# Altium footprint library Esp32 CAM PCB.PcbLib: 29 footprints (part 1 of 2)
Each footprint in its own frame and in the unit in brackets; x right, y up, seen from the top. Pads: shape width x height; smd on the part's side, far side on the other; paste and mask are expansions set on the pad; w line width, h text height; cw(c..) or ccw(c..) is an arc to the next point about the centre after c.
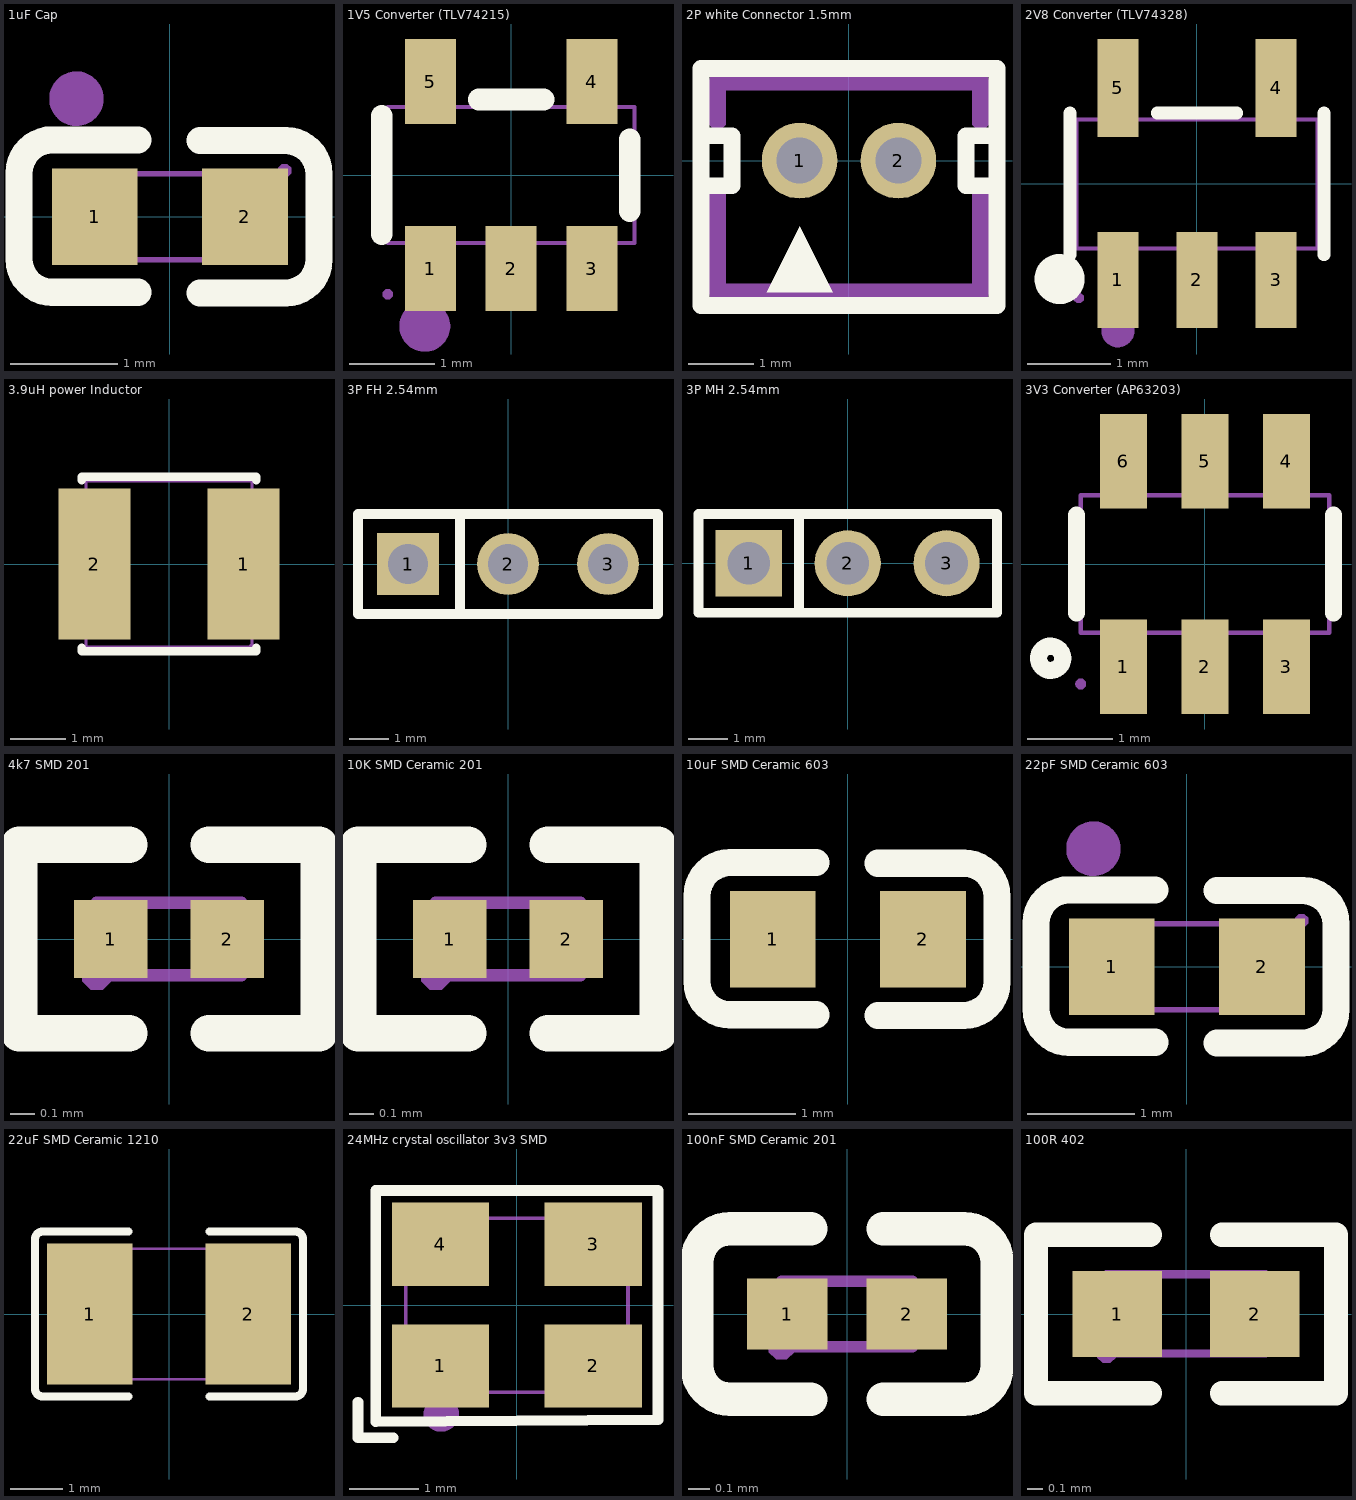
[diagram p0: the footprints below, top view; thin cyan lines are the x and y axes]

## 1uF Cap [mm]
pads (2):
  rect 0.8x0.9 smd paste+0 mask+0.051: 1(-0.7,0) 2(0.7,0)
Top Overlay:
  lines w0.254: -0.296,-0.704 -1.096,-0.704 cw(c-1.096,-0.394) -1.406,-0.394 -1.405,0.406 cw(c-1.096,0.406) -1.096,0.715 -0.296,0.715 ; 0.28,-0.71 1.08,-0.71 ccw(c1.08,-0.4) 1.39,-0.4 1.39,0.4 ccw(c1.08,0.4) 1.08,0.71 0.28,0.71
Mechanical 6:
  circle w0.254: c-0.87,1.1 r0.127
Mechanical 15:
  region: 1.13,0.43 1.13,0.455 1.095,0.49 1.045,0.49 1.01,0.455 1.01,0.43 1.01,0.405 1.045,0.37 1.095,0.37 1.13,0.405
  region: -0.8,-0.4 -0.8,0.4 -0.5,0.4 -0.5,-0.4
  region: 0.8,-0.4 0.8,0.4 0.5,0.4 0.5,-0.4
  lines w0.051: -0.8,-0.4 -0.8,0.4 0.8,0.4 0.8,-0.4 -0.8,-0.4
3D body "603 cap.step": height 0.47, standoff 0.01, extent -0.851,-0.4 0.749,0.4

## 1V5 Converter (TLV74215) [mm]
pads (5):
  rect 0.6x1 smd paste+0 mask+0.05: 1(-0.95,-1.1) 2(0,-1.1) 3(0.95,-1.1) 4(0.95,1.1) 5(-0.95,1.1)
Top Overlay:
  lines w0.254: -1.524,-0.699 -1.524,0.699 ; -0.381,0.889 0.381,0.889 ; 1.397,-0.422 1.397,0.422
Mechanical 6:
  circle w0.3: c-1.016,-1.778 r0.15
Mechanical 15:
  region: -1.15,0.95 -1.15,1.4 -0.75,1.4 -0.75,0.95
  region: -1.15,0.79 -1.15,0.96 -0.75,0.96 -0.75,0.79
  region: 0.75,0.95 0.75,1.4 1.15,1.4 1.15,0.95
  region: 0.75,0.79 0.75,0.96 1.15,0.96 1.15,0.79
  region: -1.15,-1.4 -1.15,-0.95 -0.75,-0.95 -0.75,-1.4
  region: -1.15,-0.96 -1.15,-0.79 -0.75,-0.79 -0.75,-0.96
  region: 0.75,-1.4 0.75,-0.95 1.15,-0.95 1.15,-1.4
  region: 0.75,-0.96 0.75,-0.79 1.15,-0.79 1.15,-0.96
  region: -0.2,-1.4 -0.2,-0.95 0.2,-0.95 0.2,-1.4
  region: -0.2,-0.96 -0.2,-0.79 0.2,-0.79 0.2,-0.96
  region: -1.39,-1.4 -1.391,-1.376 -1.426,-1.341 -1.475,-1.341 -1.51,-1.376 -1.51,-1.4 -1.51,-1.425 -1.475,-1.459 -1.426,-1.459 -1.391,-1.425
  lines w0.051: -1.45,-0.8 1.45,-0.8 1.45,0.8 -1.45,0.8 -1.45,-0.8
3D body "TLV74315PDBVR.stp": height 1.2, standoff 0, extent -1.45,-1.349 1.45,1.451

## 2P white Connector 1.5mm [mm]
pads (2):
  round 1.15 hole 0.7 paste-2539.97 mask+0.051: 1(-0.75,0) 2(0.75,0)
Top Overlay:
  region: -1.25,-2 -0.25,-2 -0.75,-1
  lines w0.254: -2.25,-0.381 -1.778,-0.381 -1.778,0.381 -2.25,0.381 ; 2.25,-0.381 1.778,-0.381 1.778,0.381 2.25,0.381 ; -2.25,-2.2 -2.25,1.4 2.25,1.4 2.25,-2.2 -2.25,-2.2
Mechanical 6:
  region: -2.127,0.6 -2.127,1.2 -2.127,1.225 -2.108,1.272 -2.072,1.308 -2.025,1.327 -2,1.327 2,1.327 2.025,1.327 2.072,1.308 2.108,1.272 2.127,1.225 2.127,1.2 2.127,0.6 2.127,0.547 2.053,0.473 1.947,0.473 1.873,0.547 1.873,0.6 1.873,1.073 -1.873,1.073 -1.873,0.6 -1.873,0.547 -1.947,0.473 -2.053,0.473 -2.127,0.547
  region: -1.873,-0.5 -1.873,-1.873 1.873,-1.873 1.873,-0.5 1.873,-0.447 1.947,-0.373 2.053,-0.373 2.127,-0.447 2.127,-0.5 2.127,-2 2.127,-2.025 2.108,-2.072 2.072,-2.108 2.025,-2.127 2,-2.127 -2,-2.127 -2.025,-2.127 -2.072,-2.108 -2.108,-2.072 -2.127,-2.025 -2.127,-2 -2.127,-0.5 -2.127,-0.447 -2.053,-0.373 -1.947,-0.373 -1.873,-0.447
Mechanical 15:
  region: 1,0 1,0.049 0.961,0.141 0.891,0.21 0.799,0.248 0.7,0.248 0.609,0.21 0.539,0.141 0.5,0.049 0.5,0 0.5,-0.05 0.539,-0.141 0.609,-0.21 0.7,-0.248 0.799,-0.248 0.891,-0.21 0.961,-0.141 1,-0.049
  region: -0.5,0 -0.5,0.049 -0.539,0.141 -0.609,0.21 -0.7,0.248 -0.799,0.248 -0.891,0.21 -0.961,0.141 -1,0.049 -1,0 -1,-0.05 -0.961,-0.141 -0.891,-0.21 -0.799,-0.248 -0.7,-0.248 -0.609,-0.21 -0.539,-0.141 -0.5,-0.049
  region: -2.19,-2.2 -2.19,-2.175 -2.225,-2.14 -2.275,-2.14 -2.31,-2.175 -2.31,-2.2 -2.31,-2.225 -2.275,-2.26 -2.225,-2.26 -2.19,-2.225
  lines w0.051: -2.25,-2.2 2.25,-2.2 2.25,1.4 -2.25,1.4 -2.25,-2.2

## 2V8 Converter (TLV74328) [mm]
pads (5):
  rect 0.49x1.157 smd paste+0 mask+0.051: 1(-0.95,-1.154) 2(0,-1.154) 3(0.95,-1.154)
  rect 0.49x1.175 smd paste+0 mask+0.051: 4(0.95,1.154) 5(-0.95,1.154)
Top Overlay:
  circle w0.3: c-1.651,-1.143 r0.15
  lines w0.152: -1.526,-0.851 -1.526,0.851 ; -0.476,0.851 0.476,0.851 ; 1.526,-0.851 1.526,0.851
Mechanical 6:
  circle w0.2: c-0.95,-1.763 r0.1
Mechanical 15:
  region: -1.36,-1.37 -1.361,-1.345 -1.396,-1.311 -1.445,-1.311 -1.48,-1.346 -1.48,-1.37 -1.48,-1.395 -1.445,-1.429 -1.396,-1.429 -1.361,-1.394
  region: -1.125,0.74 -1.125,1.01 -0.775,1.01 -0.775,0.74
  region: -1.125,1 -1.125,1.4 -0.775,1.4 -0.775,1
  region: 0.775,0.74 0.775,1.01 1.125,1.01 1.125,0.74
  region: 0.775,1 0.775,1.4 1.125,1.4 1.125,1
  region: 0.775,-1.01 0.775,-0.74 1.125,-0.74 1.125,-1.01
  region: 0.775,-1.4 0.775,-1 1.125,-1 1.125,-1.4
  region: -0.175,-1.01 -0.175,-0.74 0.175,-0.74 0.175,-1.01
  region: -0.175,-1.4 -0.175,-1 0.175,-1 0.175,-1.4
  region: -1.125,-1.01 -1.125,-0.74 -0.775,-0.74 -0.775,-1.01
  region: -1.125,-1.4 -1.125,-1 -0.775,-1 -0.775,-1.4
  lines w0.051: -1.45,-0.775 1.45,-0.775 1.45,0.775 -1.45,0.775 -1.45,-0.775
3D body "TLV74315PDBVR.stp": height 1.2, standoff 0, extent -1.45,-1.349 1.45,1.451

## 3.9uH power Inductor [mm]
pads (2):
  rect 1.3x2.72 smd paste+0 mask+0.051: 1(1.35,0) 2(-1.35,0)
Top Overlay:
  lines w0.152: -1.576,-1.512 -1.576,-1.576 1.576,-1.576 1.576,-1.512 ; -1.576,1.512 -1.576,1.576 1.576,1.576 1.576,1.512
Mechanical 15:
  region: 1.56,-1.5 1.56,-1.476 1.525,-1.441 1.475,-1.441 1.44,-1.475 1.44,-1.5 1.44,-1.525 1.475,-1.559 1.524,-1.559 1.559,-1.525
  region: 0.75,1.25 1.5,1.25 1.5,-1.25 0.75,-1.25
  region: -0.75,-1.25 -1.5,-1.25 -1.5,1.25 -0.75,1.25
  lines w0.051: -1.5,-1.5 -1.5,1.5 1.5,1.5 1.5,-1.5 -1.5,-1.5
3D body "SRN3015-180M.stp": height 1.5, standoff 0, extent -1.5,-1.5 1.5,1.5

## 3P FH 2.54mm [mil]
pads (3):
  rect 62x62 hole 40.16 paste-99999 mask+2: 1(-100,0)
  round 62 hole 40.16 paste-99999 mask+2: 2(0,0) 3(100,0)
Top Overlay:
  lines w10: -48.09,-50 -48.09,50 ; -150,-50 150,-50 150,50 -150,50 -150,-50
3D body "3P FH.STEP": height 350, standoff -344.49, extent -149,-49 151,51

## 3P MH 2.54mm [mm]
pads (3):
  rect 1.7x1.7 hole 1.1 paste-2539.97 mask+0.051: 1(-2.54,0)
  round 1.7 hole 1.1 paste-2539.97 mask+0.051: 2(0,0) 3(2.54,0)
Top Overlay:
  lines w0.254: -1.246,-1.27 -1.246,1.27 ; -3.835,-1.27 3.835,-1.27 3.835,1.27 -3.835,1.27 -3.835,-1.27
Mechanical 15:
  region: -3.75,-1.25 -3.751,-1.226 -3.786,-1.192 -3.834,-1.192 -3.869,-1.226 -3.87,-1.25 -3.869,-1.274 -3.834,-1.308 -3.786,-1.308 -3.751,-1.274
  region: 2.22,0.32 2.86,0.32 2.86,-0.32 2.22,-0.32
  region: -0.32,0.32 0.32,0.32 0.32,-0.32 -0.32,-0.32
  region: -2.86,0.32 -2.22,0.32 -2.22,-0.32 -2.86,-0.32
  lines w0.051: -3.81,-1.25 -3.81,1.25 3.81,1.25 3.81,-1.25 -3.81,-1.25
3D body "1x3 Male Pin Header.STEP": height 3, standoff -10.54, extent -3.838,-1.281 3.787,1.219

## 3V3 Converter (AP63203) [mm]
pads (6):
  rect 0.55x1.1 smd paste+0 mask+0.05: 1(-0.95,-1.2) 2(0,-1.2) 3(0.95,-1.2) 4(0.95,1.2) 5(0,1.2) 6(-0.95,1.2)
Top Overlay:
  circle w0.2: c-1.8,-1.1 r0.141
  lines w0.2: -1.5,-0.572 -1.5,0.572 ; 1.5,-0.572 1.5,0.572
Mechanical 6:
  circle w0.2: c-1,-1.4 r0.1
Mechanical 15:
  region: -1.39,-1.4 -1.391,-1.376 -1.426,-1.341 -1.475,-1.341 -1.51,-1.376 -1.51,-1.4 -1.51,-1.425 -1.475,-1.459 -1.426,-1.459 -1.391,-1.425
  region: -1.17,-1.01 -1.17,-0.79 -0.73,-0.79 -0.73,-1.01
  region: -1.17,-1.4 -1.17,-1 -0.73,-1 -0.73,-1.4
  region: -0.22,-1.01 -0.22,-0.79 0.22,-0.79 0.22,-1.01
  region: -0.22,-1.4 -0.22,-1 0.22,-1 0.22,-1.4
  region: 0.73,-1.01 0.73,-0.79 1.17,-0.79 1.17,-1.01
  region: 0.73,-1.4 0.73,-1 1.17,-1 1.17,-1.4
  region: 0.73,0.79 0.73,1.01 1.17,1.01 1.17,0.79
  region: 0.73,1 0.73,1.4 1.17,1.4 1.17,1
  region: -0.22,0.79 -0.22,1.01 0.22,1.01 0.22,0.79
  region: -0.22,1 -0.22,1.4 0.22,1.4 0.22,1
  region: -1.17,0.79 -1.17,1.01 -0.73,1.01 -0.73,0.79
  region: -1.17,1 -1.17,1.4 -0.73,1.4 -0.73,1
  lines w0.051: -1.45,-0.8 -1.45,0.8 1.45,0.8 1.45,-0.8 -1.45,-0.8
3D body "AP63203WU-7.step": height 1, standoff 0, extent -1.45,-1.45 1.45,1.45

## 4k7 SMD 201 [mm]
pads (2):
  rect 0.303x0.324 smd paste-100 mask+0.051: 1(-0.242,0) 2(0.242,0)
Top Overlay:
  lines w0.152: -0.166,-0.391 -0.622,-0.391 -0.622,0.391 -0.166,0.391 ; 0.166,-0.391 0.622,-0.391 0.622,0.391 0.166,0.391
Top Paste:
  region: -0.081,-0.138 -0.081,0.138 -0.105,0.162 -0.369,0.162 -0.393,0.138 -0.393,-0.138 -0.369,-0.162 -0.105,-0.162
  region: 0.081,-0.138 0.081,0.138 0.105,0.162 0.369,0.162 0.393,0.138 0.393,-0.138 0.369,-0.162 0.105,-0.162
Mechanical 15:
  region: 0.3,-0.15 0.3,0.15 0.15,0.15 0.15,-0.15
  region: -0.3,-0.15 -0.3,0.15 -0.15,0.15 -0.15,-0.15
  region: -0.24,-0.15 -0.24,-0.125 -0.275,-0.09 -0.325,-0.09 -0.36,-0.125 -0.36,-0.15 -0.36,-0.175 -0.325,-0.21 -0.275,-0.21 -0.24,-0.175
  lines w0.051: -0.3,-0.15 0.3,-0.15 0.3,0.15 -0.3,0.15 -0.3,-0.15
3D body "4k7 SMD res.step": height 0.26, standoff 0, extent -0.3,-0.15 0.3,0.15

## 10K SMD Ceramic 201 [mm]
pads (2):
  rect 0.303x0.324 smd paste-100 mask+0.051: 1(-0.242,0) 2(0.242,0)
Top Overlay:
  lines w0.152: -0.166,-0.391 -0.622,-0.391 -0.622,0.391 -0.166,0.391 ; 0.166,-0.391 0.622,-0.391 0.622,0.391 0.166,0.391
Top Paste:
  region: -0.081,-0.138 -0.081,0.138 -0.105,0.162 -0.369,0.162 -0.393,0.138 -0.393,-0.138 -0.369,-0.162 -0.105,-0.162
  region: 0.081,-0.138 0.081,0.138 0.105,0.162 0.369,0.162 0.393,0.138 0.393,-0.138 0.369,-0.162 0.105,-0.162
Mechanical 15:
  region: 0.3,-0.15 0.3,0.15 0.15,0.15 0.15,-0.15
  region: -0.3,-0.15 -0.3,0.15 -0.15,0.15 -0.15,-0.15
  region: -0.24,-0.15 -0.24,-0.125 -0.275,-0.09 -0.325,-0.09 -0.36,-0.125 -0.36,-0.15 -0.36,-0.175 -0.325,-0.21 -0.275,-0.21 -0.24,-0.175
  lines w0.051: -0.3,-0.15 0.3,-0.15 0.3,0.15 -0.3,0.15 -0.3,-0.15
3D body "10K SMD res.step": height 0.26, standoff 0, extent -0.3,-0.15 0.3,0.15

## 10uF SMD Ceramic 603 [mm]
pads (2):
  rect 0.8x0.9 smd paste+0 mask+0.051: 1(-0.7,0) 2(0.7,0)
Top Overlay:
  lines w0.254: -0.296,-0.704 -1.096,-0.704 cw(c-1.096,-0.394) -1.406,-0.394 -1.405,0.406 cw(c-1.096,0.406) -1.096,0.715 -0.296,0.715 ; 0.28,-0.71 1.08,-0.71 ccw(c1.08,-0.4) 1.39,-0.4 1.39,0.4 ccw(c1.08,0.4) 1.08,0.71 0.28,0.71
3D body "22pF cap SMD .step": height 0.97, standoff 0.02, extent -0.9,-0.432 0.85,0.438

## 22pF SMD Ceramic 603 [mm]
pads (2):
  rect 0.8x0.9 smd paste+0 mask+0.051: 1(-0.7,0) 2(0.7,0)
Top Overlay:
  lines w0.254: -0.296,-0.704 -1.096,-0.704 cw(c-1.096,-0.394) -1.406,-0.394 -1.405,0.406 cw(c-1.096,0.406) -1.096,0.715 -0.296,0.715 ; 0.28,-0.71 1.08,-0.71 ccw(c1.08,-0.4) 1.39,-0.4 1.39,0.4 ccw(c1.08,0.4) 1.08,0.71 0.28,0.71
Mechanical 6:
  circle w0.254: c-0.87,1.1 r0.127
Mechanical 15:
  region: 0.8,-0.4 0.8,0.4 0.5,0.4 0.5,-0.4
  region: -0.8,-0.4 -0.8,0.4 -0.5,0.4 -0.5,-0.4
  region: 1.13,0.43 1.13,0.455 1.095,0.49 1.045,0.49 1.01,0.455 1.01,0.43 1.01,0.405 1.045,0.37 1.095,0.37 1.13,0.405
  lines w0.051: -0.8,-0.4 0.8,-0.4 0.8,0.4 -0.8,0.4 -0.8,-0.4
3D body "22pF cap SMD .step": height 0.97, standoff 0.02, extent -0.824,-0.413 0.926,0.457

## 22uF SMD Ceramic 1210 [mm]
pads (2):
  rect 1.635x2.7 smd paste-100 mask+0.051: 1(-1.517,0) 2(1.517,0)
Top Overlay:
  lines w0.152: -0.776,-1.579 -2.411,-1.579 cw(c-2.411,-1.426) -2.564,-1.426 -2.564,1.426 cw(c-2.411,1.426) -2.411,1.579 -0.776,1.579 ; 0.776,-1.579 2.411,-1.579 ccw(c2.411,-1.426) 2.564,-1.426 2.564,1.426 ccw(c2.411,1.426) 2.411,1.579 0.776,1.579
Top Paste:
  region: -0.7,-1.25 -0.7,-0.559 -0.8,-0.459 -1.156,-0.459 -1.256,-0.359 -1.256,0.359 -1.156,0.459 -0.8,0.459 -0.7,0.559 -0.7,1.25 -0.8,1.35 -2.235,1.35 -2.335,1.25 -2.335,-1.25 -2.235,-1.35 -0.8,-1.35
  region: 0.7,-1.25 0.7,-0.559 0.8,-0.459 1.156,-0.459 1.256,-0.359 1.256,0.359 1.156,0.459 0.8,0.459 0.7,0.559 0.7,1.25 0.8,1.35 2.235,1.35 2.335,1.25 2.335,-1.25 2.235,-1.35 0.8,-1.35
Mechanical 15:
  region: 1.6,-1.25 1.6,1.25 1,1.25 1,-1.25
  region: -1.6,-1.25 -1.6,1.25 -1,1.25 -1,-1.25
  region: -1.54,-1.25 -1.541,-1.226 -1.576,-1.192 -1.624,-1.192 -1.659,-1.226 -1.66,-1.25 -1.659,-1.274 -1.624,-1.308 -1.576,-1.308 -1.541,-1.274
  lines w0.051: -1.6,-1.25 1.6,-1.25 1.6,1.25 -1.6,1.25 -1.6,-1.25
3D body "22uF SMD Cap.step": height 2.8, standoff 0, extent -1.575,-1.25 1.625,1.25

## 24MHz crystal oscillator 3v3 SMD [mm]
pads (4):
  rect 1.4x1.2 smd: 1(-1.1,-0.875) 2(1.1,-0.875) 3(1.1,0.875) 4(-1.1,0.875)
Top Overlay:
  lines w0.152: -2.286,-1.397 -2.286,-1.905 -1.778,-1.905 ; -2.029,-1.679 2.032,-1.651 2.032,0 2.032,1.651 -2.029,1.651 -2.029,-1.679
Mechanical 6:
  circle w0.254: c-1.088,-1.567 r0.127
  region: -1.206,1.206 -1.206,0.572 -1.079,0.572 -1.079,1.206
  region: -1.46,0.953 -0.699,0.953 -0.699,0.826 -1.46,0.826
  region: -1.738,-0.536 -1.702,-0.536 -1.702,-0.608 -1.738,-0.608
  region: -1.702,-0.536 -1.666,-0.536 -1.666,-0.608 -1.702,-0.608
  region: -1.666,-0.5 -1.63,-0.5 -1.63,-0.608 -1.666,-0.608
  region: -1.63,-0.464 -1.594,-0.464 -1.594,-0.572 -1.63,-0.572
  region: -1.594,-0.464 -1.558,-0.464 -1.558,-1.004 -1.594,-1.004
  region: -1.558,-0.428 -1.522,-0.428 -1.522,-1.004 -1.558,-1.004
  region: -1.522,-0.428 -1.486,-0.428 -1.486,-1.004 -1.522,-1.004
  region: -1.486,-0.428 -1.45,-0.428 -1.45,-1.004 -1.486,-1.004
Mechanical 15:
  region: 0.6,-0.449 1.5,-0.449 1.5,-1.249 0.6,-1.249
  region: -1.5,-0.449 -0.6,-0.449 -0.6,-1.249 -1.5,-1.249
  region: -1.5,1.249 -0.6,1.249 -0.6,0.449 -1.5,0.449
  region: 0.6,1.249 1.5,1.249 1.5,0.449 0.6,0.449
  region: -1.54,-1.25 -1.54,-1.225 -1.575,-1.191 -1.624,-1.191 -1.659,-1.225 -1.66,-1.25 -1.659,-1.274 -1.624,-1.309 -1.576,-1.309 -1.541,-1.274
  lines w0.051: -1.6,-1.25 1.6,-1.25 1.6,1.25 -1.6,1.25 -1.6,-1.25

## 100nF SMD Ceramic 201 [mm]
pads (2):
  rect 0.368x0.324 smd paste-100 mask+0.051: 1(-0.274,0) 2(0.274,0)
Top Overlay:
  lines w0.152: -0.166,-0.391 -0.535,-0.391 cw(c-0.535,-0.238) -0.687,-0.238 -0.687,0.238 cw(c-0.535,0.238) -0.535,0.391 -0.166,0.391 ; 0.166,-0.391 0.535,-0.391 ccw(c0.535,-0.238) 0.687,-0.238 0.687,0.238 ccw(c0.535,0.238) 0.535,0.391 0.166,0.391
Top Paste:
  region: 0.081,-0.138 0.081,0.138 0.105,0.162 0.434,0.162 0.458,0.138 0.458,-0.138 0.434,-0.162 0.105,-0.162
  region: -0.081,-0.138 -0.081,0.138 -0.105,0.162 -0.434,0.162 -0.458,0.138 -0.458,-0.138 -0.434,-0.162 -0.105,-0.162
Mechanical 15:
  region: -0.24,-0.15 -0.241,-0.126 -0.276,-0.092 -0.324,-0.092 -0.359,-0.126 -0.36,-0.15 -0.359,-0.174 -0.324,-0.208 -0.276,-0.208 -0.241,-0.174
  region: -0.3,-0.15 -0.3,0.15 -0.15,0.15 -0.15,-0.15
  region: 0.3,-0.15 0.3,0.15 0.15,0.15 0.15,-0.15
  lines w0.051: -0.3,-0.15 -0.3,0.15 0.3,0.15 0.3,-0.15 -0.3,-0.15
3D body "100nF Cap SMD.step": height 0.3, standoff 0, extent -0.3,-0.178 0.3,0.152

## 100R 402 [mm]
pads (2):
  rect 0.566x0.54 smd paste-100 mask+0.051: 1(-0.433,0) 2(0.433,0)
Top Overlay:
  lines w0.152: -0.226,-0.499 -0.944,-0.499 -0.944,0.499 -0.226,0.499 ; 0.226,-0.499 0.944,-0.499 0.944,0.499 0.226,0.499
Top Paste:
  region: -0.135,-0.23 -0.135,0.23 -0.175,0.27 -0.676,0.27 -0.716,0.23 -0.716,-0.23 -0.676,-0.27 -0.175,-0.27
  region: 0.135,-0.23 0.135,0.23 0.175,0.27 0.676,0.27 0.716,0.23 0.716,-0.23 0.676,-0.27 0.175,-0.27
Mechanical 15:
  region: -0.249,0.25 -0.249,-0.25 -0.499,-0.25 -0.499,0.25
  region: 0.251,-0.25 0.251,0.25 0.501,0.25 0.501,-0.25
  region: -0.44,-0.25 -0.441,-0.226 -0.476,-0.192 -0.524,-0.192 -0.559,-0.226 -0.56,-0.25 -0.559,-0.274 -0.524,-0.308 -0.476,-0.308 -0.441,-0.274
  lines w0.051: -0.5,-0.25 0.5,-0.25 0.5,0.25 -0.5,0.25 -0.5,-0.25
3D body "100R SMD res.step": height 0.35, standoff 0, extent -0.475,-0.25 0.525,0.25